# EAGLE library part 687116183622_CABLE (library ribbon_cable_solder_16con_0d5pitch)
Wurth Elektronik WR-FPC Series 0.5mm Pitch 16 Way Horizontal SMT Female FPC Connector, Top Contact Source: Datasheet <http://www.mouser.com/datasheet/2/445/687116183622-1114322.pdf>
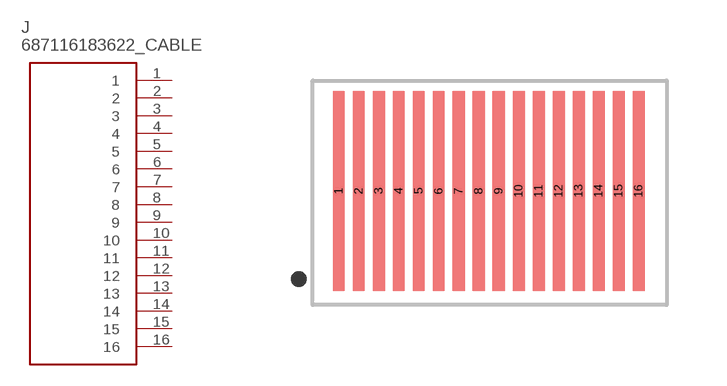
[diagram p0: symbol with the pads of 687116183622_CABLE; footprint 687116183622_CABLE]

Designator prefix J

## 687116183622_CABLE (DESCRIPTION: Wurth Elektronik WR-FPC Series 0.5mm Pitch 16 Way Horizontal SMT Female FPC Connector, Top Contact; HEIGHT: 1.3mm; MANUFACTURER_NAME: Wurth Elektronik; MANUFACTURER_PART_NUMBER: 687116183622; MOUSER_PART_NUMBER: 710-687116183622; MOUSER_PRICE-STOCK: https://www.mouser.co.uk/ProductDetail/Wurth-Elektronik/687116183622?qs=5aG0NVq1C4zuGx98tUjizg%3D%3D)  [687116183622_CABLE]
1  1
2  2
3  3
4  4
5  5
6  6
7  7
8  8
9  9
10  10
11  11
12  12
13  13
14  14
15  15
16  16

## Footprint 687116183622_CABLE (pad centres in mm)
687116183622-1
smd 0.3 x 5: 1 -3.75,1.85; 2 -3.25,1.85; 3 -2.75,1.85; 4 -2.25,1.85; 5 -1.75,1.85; 6 -1.25,1.85; 7 -0.75,1.85; 8 -0.25,1.85; 9 0.25,1.85; 10 0.75,1.85; 11 1.25,1.85; 12 1.75,1.85; 13 2.25,1.85; 14 2.75,1.85; 15 3.25,1.85; 16 3.75,1.85